# Altium schematic symbol library Schlib1.SchLib: 14 symbols
Pins are listed as number, name and electrical type; pins without a type are passive.

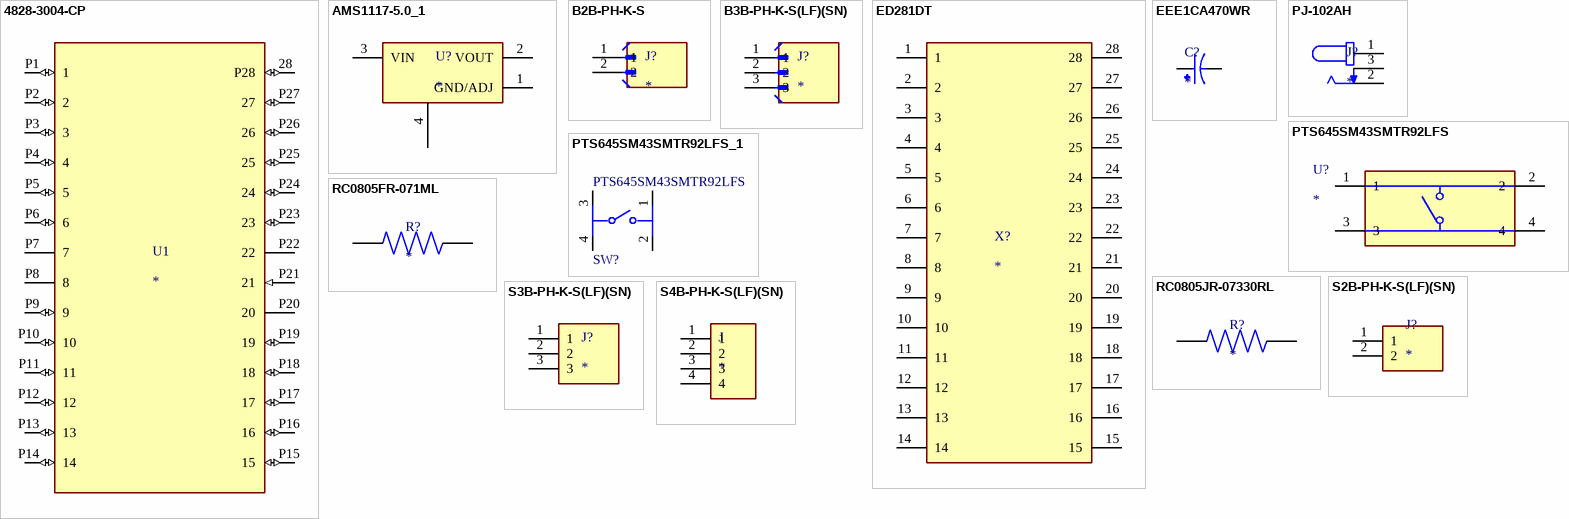
[diagram p0: symbols 4828-3004-CP to S4B-PH-K-S(LF)(SN)]

## 4828-3004-CP
designator U1
28 _2 x 14_ Pos DIP, 0.3 _7.62 mm_ Enchufe de separaciÃ³n de hileras EstaÃ±o Orificio pasante; MP: 4828-3004-CP; MF: 3M; Package: None; Availability: Unavailable; Value: *; SnapEDA_Link: https://www.snapeda.com/parts/4828-3004-CP/3M%20%28TC%29/view-part/297316/?ref=snap; Price: None
footprint 3M 4828-3004-CP
pins: 28 P28 (io), P1 1 (io), P2 2 (io), P3 3 (io), P4 4 (io), P5 5 (io), P6 6 (io), P7 7 (power), P8 8 (power), P9 9 (io), P10 10 (io), P11 11 (io), P12 12 (io), P13 13 (io), P14 14 (io), P15 15 (io), P16 16 (io), P17 17 (io), P18 18 (io), P19 19 (io), P20 20 (power), P21 21 (in), P22 22 (power), P23 23 (io), P24 24 (io), P25 25 (io), P26 26 (io), P27 27 (io)

## AMS1117-5.0_1
designator U?
1A LOW DROPOUT VOLTAGE REGULATOR; MP: AMS1117-5.0; MF: ams; Package: SOT-223 Seeed Technology; SnapEDA_Link: https://www.snapeda.com/parts/AMS1117-5.0/ams/view-part/?ref=snap; Check_prices: https://www.snapeda.com/parts/AMS1117-5.0/ams/view-part/?ref=eda; Availability: Not in stock; Value: *; Price: None
footprint SOT229P700X180-4N
pins: 1 GND/ADJ (power), 2 VOUT (power), 3 VIN (power), 4 TAB

## B2B-PH-K-S
designator J?
Connector Header Through Hole 2 position 0.079 (2.00mm); MF: JST Sales America Inc.; MP: B2B-PH-K-S; SnapEDA_Link: https://www.snapeda.com/parts/B2B-PH-K-S/JST/view-part/?ref=snap; Package: None; Value: *; Check_prices: https://www.snapeda.com/parts/B2B-PH-K-S/JST/view-part/?ref=eda
footprint JST_B2B-PH-K-S
pins: 1, 2

## B3B-PH-K-S(LF)(SN)
designator J?
Connector Header, PH Series, 3 Position, 2.00mm, Through Hole, Press-Fit, Solder, Natural; MF: JST Sales America Inc.; MP: B3B-PH-K-S(LF)(SN); SnapEDA_Link: https://www.snapeda.com/parts/B3B-PH-K-S(LF)(SN)/JST+Sales+America+Inc./view-part/?ref=snap; Package: None; Value: *; Check_prices: https://www.snapeda.com/parts/B3B-PH-K-S(LF)(SN)/JST+Sales+America+Inc./view-part/?ref=eda
footprint JST_B3B-PH-K-S(LF)(SN)
pins: 1, 2, 3

## ED281DT
designator X?
CONN IC DIP SOCKET 28POS TIN; MP: altium_native_batch; Package: None; Value: *; Availability: Unavailable; Price: None
footprint OST_ED281DT
pins: 1, 2, 3, 4, 5, 6, 7, 8, 9, 10, 11, 12, 13, 14, 15, 16, 17, 18, 19, 20, 21, 22, 23, 24, 25, 26, 27, 28

## EEE1CA470WR
designator C?
47ÂµF 16V Aluminum Electrolytic Capacitors Radial, Can - SMD 1000 Hrs @ 85Â°C; MF: Panasonic Electronic; MP: EEE-1CA470WR; Purchase-URL: https://pricing.snapeda.com/search/part/EEE-1CA470WR/?ref=eda; Check_prices: https://www.snapeda.com/parts/EEE-1CA470WR/Panasonic%20Electronic%20Components/view-part/294689/?ref=eda; Value: *; Package: RADIAL-2 Panasonic; Price: None; Availability: In Stock; SnapEDA_Link: https://www.snapeda.com/parts/EEE-1CA470WR/Panasonic%20Electronic%20Components/view-part/294689/?ref=snap
footprint CAP_EEE1CA470WR
pins: 1, 2

## PJ-102AH
designator J?
2.0 x 6.5 mm, 5.0 A, Horizontal, Through Hole, Tapered Pins, Dc Power Jack Connector; MF: Same Sky; MP: PJ-102AH; SnapEDA_Link: https://www.snapeda.com/parts/PJ-102AH/Same+Sky/view-part/?ref=snap; Package: None; Value: *; Check_prices: https://www.snapeda.com/parts/PJ-102AH/Same+Sky/view-part/?ref=eda
footprint CUI_PJ-102AH
pins: 1, 2, 3

## PTS645SM43SMTR92LFS
designator U?
Keypad Switch, 1 Switches, SPST, Momentary-tactile, 0.05A, 12VDC, 1.57N, 4 PCB Hole Cnt, Solder Terminal, Surface Mount-straight; Manufacturer: ITT C&K; MF: C&K; MP: PTS645SM43SMTR92LFS; Actuator Type: Pushbutton; Contact Current(DC)-Max: 50mA; Contact DC Max Rating R Load: 0.05A@12VDC; Contact Resistance: 0.1mR; Contact Voltage(DC)-Max: 12V; Dielectric Withstand Volts: 250VACV; Insulation Resistance: 100GR; PCB Hole Count: 4; Body Breadth: 5.9944mm; Body Height: 3.4544mm; SnapEDA_Link: https://www.snapeda.com/parts/PTS645SM43SMTR92LFS/C%2526K/view-part/?ref=snap; Package: NON-STANDARD-4 C&amp;K; Value: *; Check_prices: https://www.snapeda.com/parts/PTS645SM43SMTR92LFS/C%2526K/view-part/?ref=eda; Supplier: Digikey; Supplier Part Number: CKN9112CT-ND; Manufacturer Part Number: PTS645SM43SMTR92LFS; RoHS: Yes; Category: Tactile Switches; Stock: 147521; Pricing: 1=0.32, 10=0.275, 25=0.2576, 100=0.2307, 250=0.2138, 500=0.20176 (USD); Mounting Technology: Surface Mount; Terminal Finish: Silver; Min Operating Temperature: -20°C; Max Operating Temperature: 60°C; JESD-609 Code: e4; Switch Action: MOMENTARY; Switch Function: SPST; Switch Type: Keypad; Termination: Solder; Body Length or Diameter: 5.9944mm; Terminal Length: 0.138inch; Reach SVHC Compliant: Yes; RoHS Compliant: Yes; ComponentLink1URL: https://datasheet.ciiva.com:443/pdfs/VipMasterIC/IC/CKCI/CKCI-S-A0001796527/CKCI-S-A0001796842-1.pdf?src-supplier=IHS+Markit; ComponentLink1Description: https://datasheet.ciiva.com:443/pdfs/VipMasterIC/IC/CKCI/CKCI-S-A0001796527/CKCI-S-A0001796842-1.pdf?src-supplier=IHS+Markit; ComponentLink2URL: https://datasheet.ciiva.com/29903/getdatasheetpartid-786341-29903846.pdf?src-supplier=Verical; ComponentLink2Description: https://datasheet.ciiva.com/29903/getdatasheetpartid-786341-29903846.pdf?src-supplier=Verical; ComponentLink3URL: https://datasheet.ciiva.com/29931/getdatasheetpartid-764615-29931183.pdf?src-supplier=Verical; ComponentLink3Description: https://datasheet.ciiva.com/29931/getdatasheetpartid-764615-29931183.pdf?src-supplier=Verical; ComponentLink4URL: https://datasheet.ciiva.com/14920/pts645-14920734.pdf?src-supplier=Digikey; ComponentLink4Description: https://datasheet.ciiva.com/14920/pts645-14920734.pdf?src-supplier=Digikey; ComponentLink5URL: https://datasheet.ciiva.com/14920/pts645-14920735.pdf?src-supplier=Digikey; ComponentLink5Description: https://datasheet.ciiva.com/14920/pts645-14920735.pdf?src-supplier=Digikey; ComponentLink6URL: https://datasheet.ciiva.com/14920/pts645-14920733.pdf?src-supplier=Digikey; ComponentLink6Description: https://datasheet.ciiva.com/14920/pts645-14920733.pdf?src-supplier=Digikey
footprint SWITCH_43SMTR92LFS
pins: 1, 2, 3, 4

## PTS645SM43SMTR92LFS_1
designator SW?, comment PTS645SM43SMTR92LFS
SWITCH TACTILE SPST-NO 0.05A 12V; Contact Resistance: 100mR; Throw Configuration: SPST; Illumination Type: Non-Illuminated; Mechanical Life: 100000Cycles; Current Rating: 50mA; Switch Function: Off-Mom; Actuator Length: 0.85mm; Actuator Material: Nylon; Actuator Type: Standard; Operating Force: 160gf; Min Operating Temperature: -20°C; REACH SVHC: No SVHC; Termination: Gull Wing; Case/Package: SMD/SMT; Packaging: Tape and Reel; Mount: Surface Mount; Voltage Rating (DC): 12V; Orientation: Straight; Lead Free: Lead Free; Contact Material: Silver; Color: Black; Max Current Rating: 50mA; Contact Plating: Silver; Depth: 9mm; Package Quantity: 1; Max Voltage Rating (DC): 12V; Length: 6mm; Max Operating Temperature: 60°C
footprint SWITCH_43SMTR92LFS
pins: 1, 2, 3, 4

## RC0805FR-071ML
designator R?
1 MOhms Â±1% 0.125W, 1/8W Chip Resistor 0805 (2012 Metric) Moisture Resistant Thick Film; MF: Yageo; MP: RC0805FR-071ML; SnapEDA_Link: https://www.snapeda.com/parts/RC0805FR-071ML/Yageo/view-part/?ref=snap; Package: 2012 Yageo; Value: *; Check_prices: https://www.snapeda.com/parts/RC0805FR-071ML/Yageo/view-part/?ref=eda
footprint RESC2012X60N
pins: 1, 2

## RC0805JR-07330RL
designator R?
Fixed Resistor, Metal Glaze/thick Film, 0.125W, 330ohm, 150V, 5% +/-Tol, 100ppm/Cel, Surface Mount, 0805; MP: RC0805JR-07330RL; MF: Yageo; Additional Feature: LASER TRIMMABLE; Power: 125mW; Rated Temperature: 70°C; Temperature Coefficient (ppm/Cel): 100; Package Height: 0.5mm; Package Length: 2mm; Package Width: 1.25mm; Purchase-URL: https://pricing.snapeda.com/search/part/RC0805JR-07330RL/?ref=eda; SnapEDA_Link: https://www.snapeda.com/parts/RC0805JR-07330RL/Yageo/view-part/615249/?ref=snap; Value: 330 Ohm; Package: 2012 Rohm Semiconductor; Digi-Key_Part_Number: 311-330ARCT-ND; Check_prices: https://www.snapeda.com/parts/RC0805JR-07330RL/Yageo/view-part/615249/?ref=eda; Supplier: Future Electronics; Supplier Part Number: 7136500; Manufacturer: Yageo; Manufacturer Part Number: RC0805JR-07330RL; RoHS: Yes; Category: Chip SMD Resistors; Stock: 65000; Pricing: 5000=0.0014, 25000=0.0014, 100000=0.0013, 250000=0.0013, 625000=0.0012 (USD); Mounting Technology: Surface Mount; Pins: 2; Package Shape: Rectangular; Case/Package: 0805; Terminal Finish: Nickel; Min Operating Temperature: -55°C; Max Operating Temperature: 155°C; Tolerance: 5%; Termination: Wraparound; JESD-609 Code: e3; Resistor Type: FIXED RESISTOR; Construction: Chip; Packaging: Tape and Reel; Technology: METAL GLAZE/THICK FILM; Working Voltage: 150V; Reach SVHC Compliant: Yes; RoHS Compliant: Yes; ComponentLink1URL: https://datasheet.ciiva.com:443/pdfs/VipMasterIC/IC/YAGO/YAGO-S-A0008145938/YAGO-S-A0008145938-1.pdf?src-supplier=IHS+Markit; ComponentLink1Description: https://datasheet.ciiva.com:443/pdfs/VipMasterIC/IC/YAGO/YAGO-S-A0008145938/YAGO-S-A0008145938-1.pdf?src-supplier=IHS+Markit; ComponentLink2URL: https://datasheet.ciiva.com/17008/rc0805-17008395.pdf?src-supplier=Future+Electronics; ComponentLink2Description: https://datasheet.ciiva.com/17008/rc0805-17008395.pdf?src-supplier=Future+Electronics; ComponentLink3URL: https://datasheet.ciiva.com/12555/rc0805-257173-12555078.pdf?src-supplier=Mouser; ComponentLink3Description: https://datasheet.ciiva.com/12555/rc0805-257173-12555078.pdf?src-supplier=Mouser; ComponentLink4URL: https://datasheet.ciiva.com/46395/444164-46395119.pdf?src-supplier=Element14; ComponentLink4Description: https://datasheet.ciiva.com/46395/444164-46395119.pdf?src-supplier=Element14; ComponentLink5URL: https://datasheet.ciiva.com/7941/442941-7941941.pdf?src-supplier=Element14; ComponentLink5Description: https://datasheet.ciiva.com/7941/442941-7941941.pdf?src-supplier=Element14; ComponentLink6URL: https://datasheet.ciiva.com/7941/442941-7941942.pdf?src-supplier=Element14; ComponentLink6Description: https://datasheet.ciiva.com/7941/442941-7941942.pdf?src-supplier=Element14
footprint RESC2012X60N
pins: 1, 2

## S2B-PH-K-S(LF)(SN)
designator J?
Connector Header Through Hole, Right Angle 2 position; MP: S2B-PH-K-S(LF)(SN); MF: JST Sales America Inc.; Price: None; Availability: In Stock; Package: None; Value: *; SnapEDA_Link: https://www.snapeda.com/parts/S2B-PH-K-S(LF)(SN)/JST+Sales+America+Inc./view-part/?ref=snap; Purchase-URL: https://pricing.snapeda.com/search/part/S2B-PH-K-S(LF)(SN)/?ref=eda; Check_prices: https://www.snapeda.com/parts/S2B-PH-K-S(LF)(SN)/JST+Sales+America+Inc./view-part/?ref=eda
footprint JST_S2B-PH-K-S(LF)(SN)
pins: 1, 2

## S3B-PH-K-S(LF)(SN)
designator J?
Connector Header Through Hole, Right Angle 3 position 0.079" (2.00mm); MP: S3B-PH-K-S(LF)(SN); Price: None; Availability: Unavailable; Value: *; Package: None
footprint JST_S3B-PH-K-S(LF)(SN)
pins: 1, 2, 3

## S4B-PH-K-S(LF)(SN)
designator J
Connector Header Through Hole, Right Angle 4 position 0.079 _2.00mm_; MP: S4B-PH-K-S_LF__SN_; MF: JST Sales; Price: None; Package: None; Value: *; Availability: Unavailable; SnapEDA_Link: https://www.snapeda.com/parts/S4B-PH-K-S%28LF%29%28SN%29/JST%20Sales%20America%20Inc./view-part/591324/?ref=snap
footprint JST_S4B-PH-K-S(LF)(SN)
pins: 1, 2, 3, 4